# EAGLE library part SP3072EE (library pixel_masterlib)
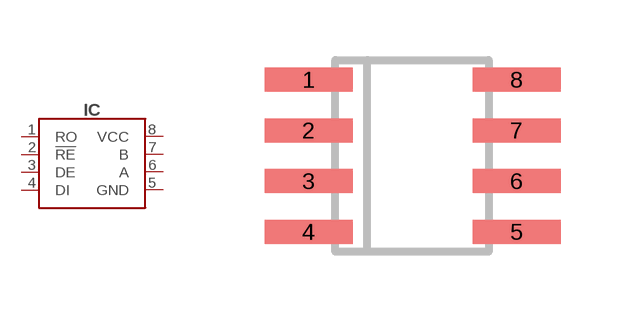
[diagram p3: symbol with the pads of SOIC8; footprint SOIC8]

Designator prefix IC

## SP3072EESOIC8 (DIGIKEY#: 1016-1784-1-ND; MANF: Exar Corporation; MANF#: SP3072EEN-L/TR)  [SOIC8]
1  RO
2  !RE
3  DE
4  DI
5  GND
6  A
7  B
8  VCC

## Footprint SOIC8 (pad centres in mm)
Small Outline IC
smd 2.2 x 0.6: 1 -2.6,1.905; 2 -2.6,0.635; 3 -2.6,-0.635; 4 -2.6,-1.905; 5 2.6,-1.905; 6 2.6,-0.635; 7 2.6,0.635; 8 2.6,1.905